# EAGLE library part OSTVN11A150 (library Parts)
OSTVN11A150 0.1" Screw Terminal, 11 Position On Shore Technology, Inc.
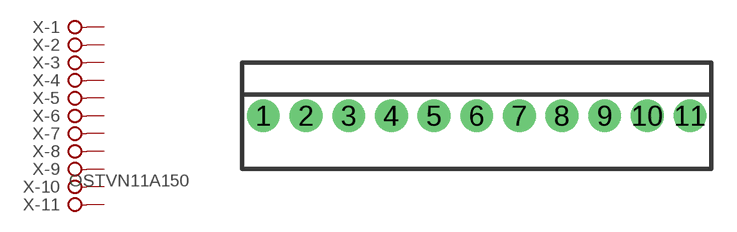
[diagram p6: symbol with the pads of OSTVN11; footprint OSTVN11]

Designator prefix X; gates -1=KL -2=KL -3=KL -4=KL -5=KL -6=KL -7=KL -8=KL -9=KL -10=KL -11=KL+V-1

## OSTVN11A150  [OSTVN11]
1  -1:KL  pas
2  -2:KL  pas
3  -3:KL  pas
4  -4:KL  pas
5  -5:KL  pas
6  -6:KL  pas
7  -7:KL  pas
8  -8:KL  pas
9  -9:KL  pas
10  -10:KL  pas
11  -11:KL  pas

## Footprint OSTVN11 (pad centres in mm)
.100" (2.54mm) Center Header - 11 Pin
drill 1.3: 1 -12.7,0; 2 -10.16,0; 3 -7.62,0; 4 -5.08,0; 5 -2.54,0; 6 0,0; 7 2.54,0; 8 5.08,0; 9 7.62,0; 10 10.16,0; 11 12.7,0